# EAGLE library part MC14543BDG (library ON Semiconductor_By_element14_Batch_1)
BCD-to-Seven Segment Latch/Decoder/Driver for Liquid Crystals
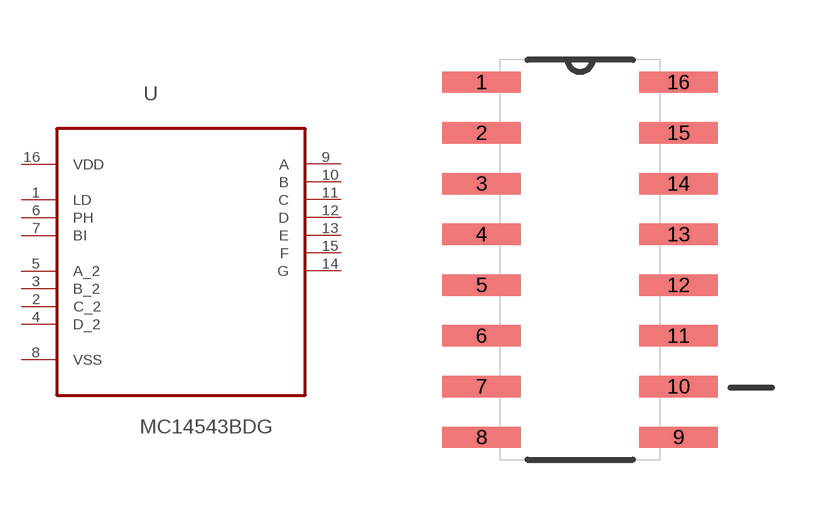
[diagram p297: symbol with the pads of SOIC127P600X175-16N; footprint SOIC127P600X175-16N]

Designator prefix U

## MC14543BDG (MPN: MC14543BDG; OC_FARNELL: 9664939; OC_NEWARK: 71J5499; P1I: o; PACKAGE: SOIC-16; SUPPLIER: ON SEMICONDUCTOR)  [SOIC127P600X175-16N]
1  LD  in
2  C_2  in
3  B_2  in
4  D_2  in
5  A_2  in
6  PH  in
7  BI  in
8  VSS  pas
9  A  out
10  B  out
11  C  out
12  D  out
13  E  out
14  G  out
15  F  out
16  VDD  pwr

## Footprint SOIC127P600X175-16N (pad centres in mm)
smd 1.956 x 0.533: 1 -2.464,4.445; 2 -2.464,3.175; 3 -2.464,1.905; 4 -2.464,0.635; 5 -2.464,-0.635; 6 -2.464,-1.905; 7 -2.464,-3.175; 8 -2.464,-4.445; 9 2.464,-4.445; 10 2.464,-3.175; 11 2.464,-1.905; 12 2.464,-0.635; 13 2.464,0.635; 14 2.464,1.905; 15 2.464,3.175; 16 2.464,4.445